# Altium footprint library LMSeries.PcbLib: 10 footprints
Each footprint in its own frame and in the unit in brackets; x right, y up, seen from the top. Pads: shape width x height; smd on the part's side, far side on the other; paste and mask are expansions set on the pad; w line width, h text height; cw(c..) or ccw(c..) is an arc to the next point about the centre after c.
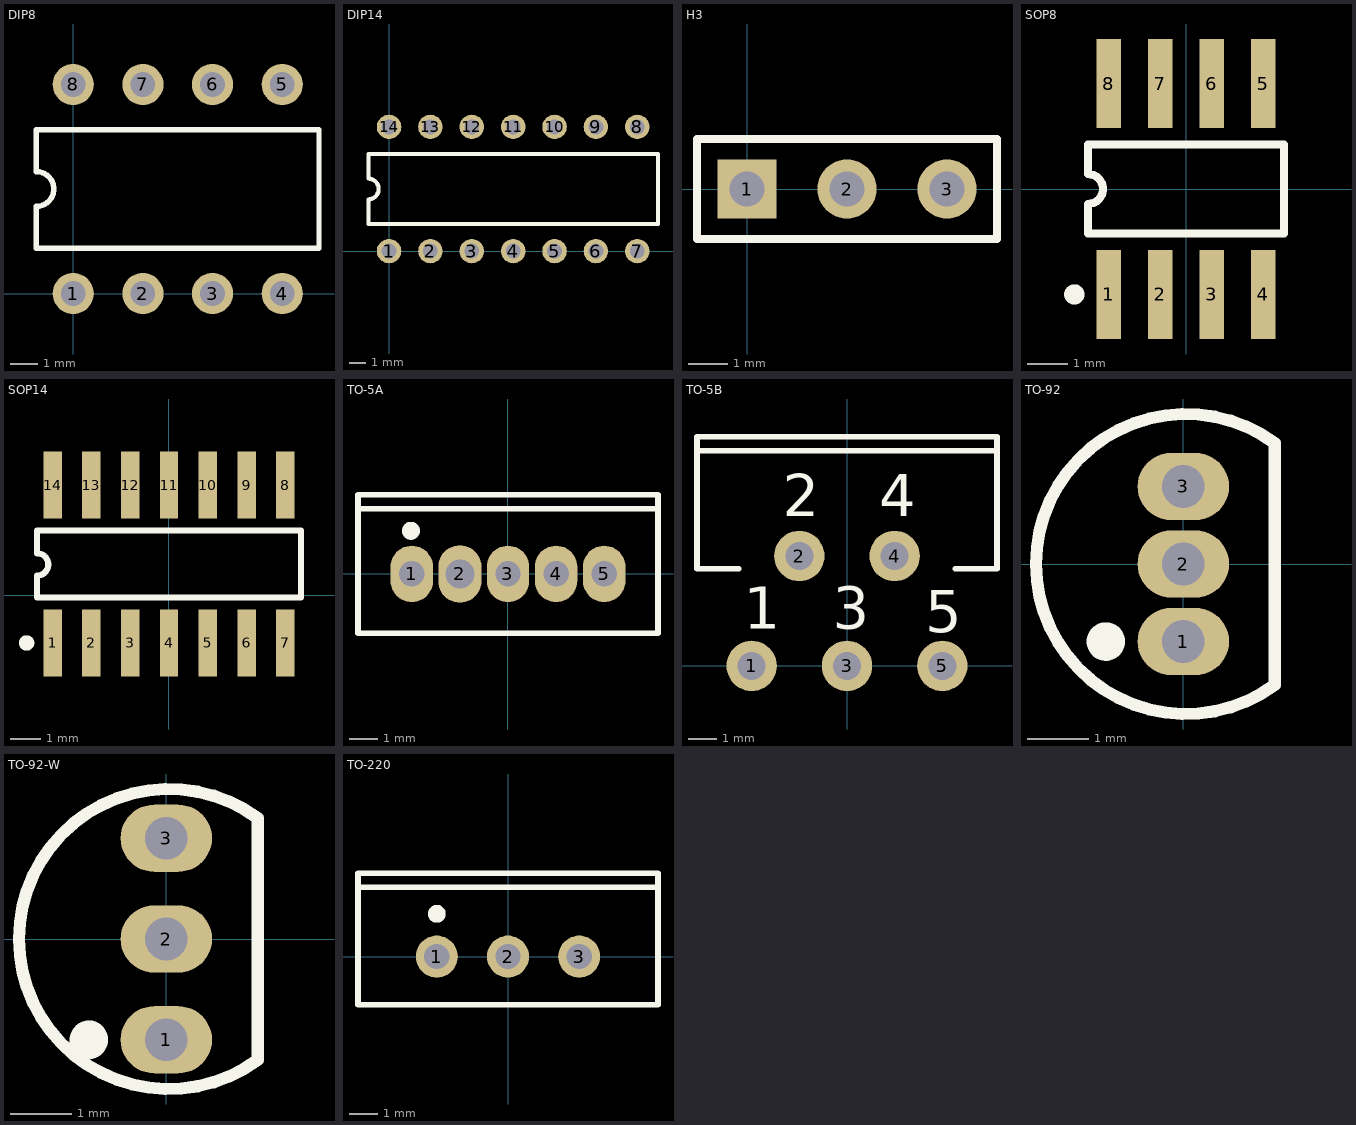
[diagram p0: the footprints below, top view; thin cyan lines are the x and y axes]

## DIP8 [mm] "DIP; 8 Leads; Row Spacing 7.62 mm; Pitch 2.54 mm"
pads (8):
  round 1.5 hole 0.9: 1(0,0) 2(2.54,0) 3(5.08,0) 4(7.62,0) 5(7.62,7.62) 6(5.08,7.62) 7(2.54,7.62) 8(0,7.62)
Top Overlay:
  lines w0.2: -1.34,1.651 8.96,1.651 8.96,5.969 -1.34,5.969 -1.34,4.445 cw(c-1.34,3.81) -1.34,3.175 -1.34,1.651

## DIP14 [mm]
pads (14):
  round 1.5 hole 0.9: 1(0,0) 2(2.54,0) 3(5.08,0) 4(7.62,0) 5(10.16,0) 6(12.7,0) 7(15.24,0) 8(15.24,7.62) 9(12.7,7.62) 10(10.16,7.62) 11(7.62,7.62) 12(5.08,7.62) 13(2.54,7.62) 14(0,7.62)
Top Overlay:
  lines w0.254: -1.27,1.651 -1.27,3.175 ccw(c-1.27,3.81) -1.27,4.445 -1.27,5.969 16.51,5.969 16.51,1.651 -1.27,1.651

## H3 [mm] "Connector; Header; 3 Position"
pads (3):
  rect 1.5x1.5 hole 0.9: 1(0,0)
  round 1.5 hole 0.9: 2(2.54,0) 3(5.08,0)
Top Overlay:
  lines w0.2: -1.27,-1.27 6.35,-1.27 6.35,1.27 -1.27,1.27 -1.27,-1.27

## SOP8 [mm]
pads (8):
  rect 0.6x2.2 smd: 1(-1.905,-2.6) 2(-0.635,-2.6) 3(0.635,-2.6) 4(1.905,-2.6) 5(1.905,2.6) 6(0.635,2.6) 7(-0.635,2.6) 8(-1.905,2.6)
Top Overlay:
  circle w0.25: c-2.755,-2.6 r0.125
  lines w0.2: -2.413,-1.1 2.413,-1.1 2.413,1.1 -2.413,1.1 -2.413,0.367 cw(c-2.413,0) -2.413,-0.367 -2.413,-1.1

## SOP14 [mm]
pads (14):
  rect 0.6x2.2 smd: 1(-3.81,-1.568) 2(-2.54,-1.568) 3(-1.27,-1.568) 4(0,-1.568) 5(1.27,-1.568) 6(2.54,-1.568) 7(3.81,-1.568) 8(3.81,3.6) 9(2.54,3.6) 10(1.27,3.6) 11(0,3.6) 12(-1.27,3.6) 13(-2.54,3.6) 14(-3.81,3.6)
Top Overlay:
  circle w0.25: c-4.66,-1.568 r0.125
  lines w0.2: -4.318,-0.084 4.318,-0.084 4.318,2.116 -4.318,2.116 -4.318,1.368 cw(c-4.318,1.002) -4.318,0.635 -4.318,-0.084

## TO-5A [mm] "TO, Thru-Hole, Vertical, Heatsink Mounted; 5 In-Line Leads; Pitch 1.70 mm"
height 15.9
pads (5):
  oval 1.5x2 hole 0.9: 1(-3.4,0) 3(0,0) 4(1.7,0) 5(3.4,0)
  oval 1.524x2.032 hole 1.016: 2(-1.7,0)
Top Overlay:
  circle w0.381: c-3.429,1.524 r0.127
  lines w0.2: -5.3,2.3 5.3,2.3 ; -5.3,-2.1 -5.3,2.8 5.3,2.8 5.3,-2.1 -5.3,-2.1

## TO-5B [mm] "TO, Thru-Hole, Vertical, Heatsink Mounted; 5 Bent Staggered Leads; Pitch 1.7 mm"
height 21.1
pads (5):
  round 1.8 hole 1: 1(-3.4,0) 2(-1.7,3.92) 3(0,0) 4(1.7,3.92) 5(3.4,0)
Top Overlay:
  lines w0.2: -5.35,7.67 5.35,7.67 ; -3.854,3.47 -5.35,3.47 -5.35,8.17 5.35,8.17 5.35,3.47 3.854,3.47
  text "4" at 1.143,5.334 h1.5
  text "2" at -2.286,5.334 h1.5
  text "3" at -0.508,1.325 h1.5
  text "5" at 2.794,1.198 h1.5
  text "1" at -3.683,1.325 h1.5

## TO-92 [mm] "TO, Flat Index; 3 In-Line, Axial Leads; Body Dia. 4.5mm; Leads 0.51 x 0.48 mm (max)"
height 6.86
pads (3):
  oval 1.5x1.1 hole 0.7: 1(0,-1.27) 2(0,0) 3(0,1.27)
Top Overlay:
  circle w0.381: c-1.268,-1.27 r0.125
  lines w0.2: 1.5,-1.98 cw(c0.044,0) 1.5,1.98 1.5,0.99 1.5,-0.99 1.5,-1.98

## TO-92-W [mm] "TO, Flat Index; 3 In-Line, Axial Leads; Body Dia. 4.5mm; Leads 0.51 x 0.48 mm (max)"
height 6.86
pads (3):
  oval 1.5x1.1 hole 0.7: 1(0,-1.651) 2(0,0) 3(0,1.651)
Top Overlay:
  circle w0.381: c-1.268,-1.651 r0.125
  lines w0.2: 1.5,-1.98 cw(c0.044,0) 1.5,1.98 1.5,0.99 1.5,-0.99 1.5,-1.98

## TO-220 [mm] "TO, Thru-Hole, Vertical, Heatsink Mounted; 3 In-Line Leads; Pitch 2.54 mm"
height 19.3
pads (3):
  round 1.5 hole 0.9: 1(-2.54,0) 2(0,0) 3(2.54,0)
Top Overlay:
  circle w0.381: c-2.538,1.524 r0.127
  lines w0.2: -5.35,2.477 5.35,2.477 ; -5.35,-1.723 5.35,-1.723 5.35,2.977 -5.35,2.977 -5.35,-1.723